# EAGLE library part 4R-ISONET-B (library uPy_AudioCodec_00)
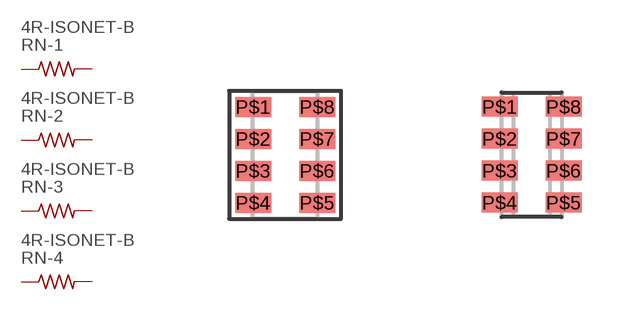
[diagram p0: symbol with the pads of CTS-742C083; footprints CTS-742C083, CTS-742C083+]

Designator prefix RN; gates -1=RESISTOR-US -2=RESISTOR-US -3=RESISTOR-US -4=RESISTOR-US

## 4R-ISONET-BA  [CTS-742C083]
P$1  -1:1  pas
P$2  -2:1  pas
P$3  -3:1  pas
P$4  -4:1  pas
P$5  -4:2  pas
P$6  -3:2  pas
P$7  -2:2  pas
P$8  -1:2  pas

## 4R-ISONET-BB  [CTS-742C083+]
Pads as for CTS-742C083

## Footprint CTS-742C083 (pad centres in mm)
smd 0.9 x 0.5: P$1 -0.8,1.2; P$2 -0.8,0.4; P$3 -0.8,-0.4; P$4 -0.8,-1.2; P$5 0.8,-1.2; P$6 0.8,-0.4; P$7 0.8,0.4; P$8 0.8,1.2

## Footprint CTS-742C083+ (pad centres in mm)
smd 0.9 x 0.5: P$1 -0.8,1.2; P$2 -0.8,0.4; P$3 -0.8,-0.4; P$4 -0.8,-1.2; P$5 0.8,-1.2; P$6 0.8,-0.4; P$7 0.8,0.4; P$8 0.8,1.2